# Altium schematic symbol library SchematicLib_Personal.SchLib: 74 symbols
Pins are listed as number, name and electrical type; pins without a type are passive.

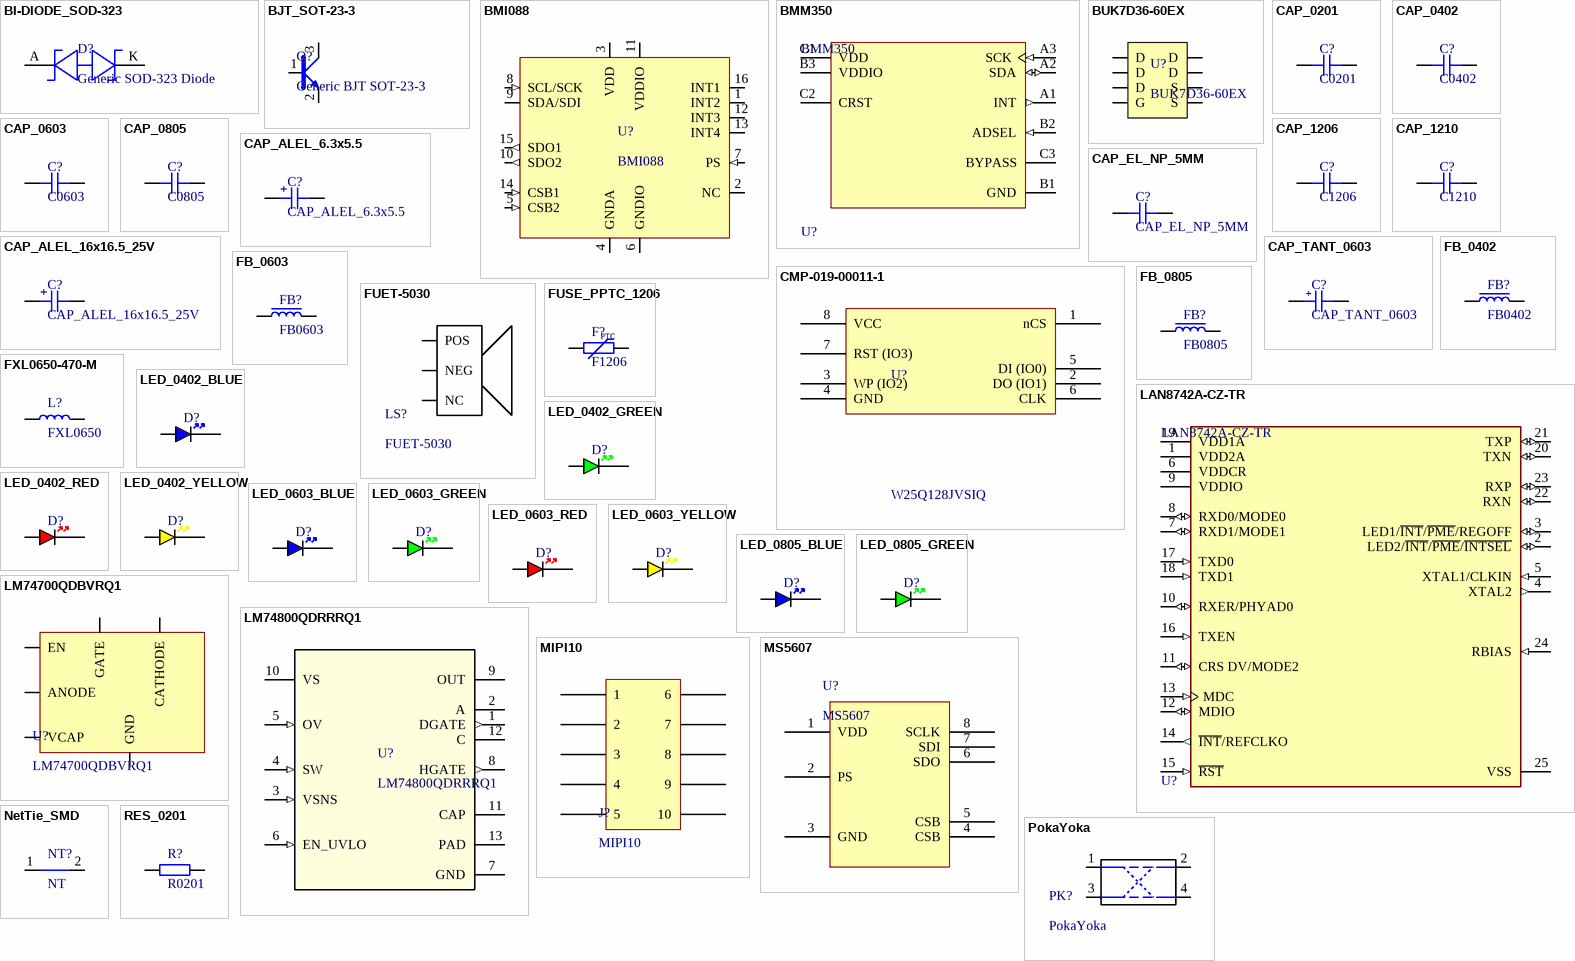
[diagram p0: symbols BI-DIODE_SOD-323 to RES_0201]

## BI-DIODE_SOD-323
designator D?, comment Generic SOD-323 Diode
Generic SOD-323 Zener Diode. BIDIRECTIONAL
footprint SOD-323
pins: A, K

## BJT_SOT-23-3
designator Q?, comment Generic BJT SOT-23-3
Generic BJT SOT-23-3. Check pins.
footprint SOT-23-3
pins: 1 BASE, 2 EMITTER, 3 COLLECTOR

## BMI088
designator U?
Inertial Measurement Unit IMU 6-Axis LGA; Manufacturer: Bosch; Manufacturer Part Number: BMI088; LCSC: C194919
footprint BMI088
pins: 1 INT2 (io), 2 NC, 3 VDD (power), 4 GNDA (power), 5 CSB2 (in), 6 GNDIO (power), 7 PS (in), 8 SCL/SCK (in), 9 SDA/SDI (io), 10 SDO2 (out), 11 VDDIO (power), 12 INT3 (io), 13 INT4 (io), 14 CSB1 (in), 15 SDO1 (out), 16 INT1 (io)

## BMM350
designator U?
BMM350 BMM350 Series 1.98 V I2C/I3C Interface 16 Bit 3 Axis Magnetometer - WLCSP-9; NexarPartId: 135173709; Manufacturer: Bosch; LCSC: C17225907
footprint FP-BMM350-IPC_C
footprint FP-BMM350-IPC_A
footprint FP-BMM350-MFG
footprint FP-BMM350-IPC_B
pins: A1 INT (out), A2 SDA (io), A3 SCK (in), B1 GND (power), B2 ADSEL (in), B3 VDDIO (power), C1 VDD (power), C2 CRST, C3 BYPASS

## BUK7D36-60EX
designator U?
N-Channel 60V 36mΩ@5.5A,10V 4V@250uA; Mfr_Name: Nexperia; RefDes: RefDes; Type: Type
footprint SOT1220
pins: 1 D, 2 D, 3 G, 4 S, 5 D, 6 D, 7 D, 8 S

## CAP_0201
designator C?, comment C0201
Capacitor SMD 0201; Manufacturer: *; Manufacturer Part Number: *; Distributor Link: *; LCSC: *; Rating: *; Dielectric: *
footprint CAP_0201
pins: 1, 2

## CAP_0402
designator C?, comment C0402
Capacitor SMD 0402; Manufacturer: *; Manufacturer Part Number: *; Distributor Link: *; LCSC: *; Rating: *; Dielectric: *
footprint CAP_0402
pins: 1, 2

## CAP_0603
designator C?, comment C0603
Capacitor SMD 0603; Manufacturer: *; Manufacturer Part Number: *; Distributor Link: *; LCSC: *; Rating: *; Dielectric: *
footprint CAP_0603
pins: 1, 2

## CAP_0805
designator C?, comment C0805
Capacitor SMD 0805; Manufacturer: *; Manufacturer Part Number: *; Distributor Link: *; LCSC: *; Rating: *; Dielectric: *
footprint CAP_0805
pins: 1, 2

## CAP_1206
designator C?, comment C1206
Capacitor SMD 1206; Manufacturer: *; Manufacturer Part Number: *; Distributor Link: *; LCSC: *; Rating: *; Dielectric: *
footprint CAP_1206
pins: 1, 2

## CAP_1210
designator C?, comment C1210
Capacitor SMD 1210; Manufacturer: *; Manufacturer Part Number: *; Distributor Link: *; LCSC: *; Rating: *; Dielectric: *
footprint CAP_1210
pins: 1, 2

## CAP_ALEL_6.3x5.5
designator C?
Capacitor SMD Aluminium Electrolytic 6.3mm Diameter 5.5mm Height; Manufacturer: *; Manufacturer Part Number: *; Distributor Link: *; LCSC: *
footprint CAP_AE_SMD_D6MM3_H5M55 (Aluminum Electrolytic Capacitor, Body 6.30x6.60x5.50mm, IPC Low Density)
pins: 1, 2
text: +

## CAP_ALEL_16x16.5_25V
designator C?
Capacitor SMD Aluminium Electrolytic 16x16.5mm 25V; Manufacturer: *; Manufacturer Part Number: *
footprint CAP_ALEL_16x16.5 (Aluminum Electrolytic Capacitor, Body 17.00x17.00x17.00mm, IPC Low Density)
pins: 1, 2
text: +

## CAP_EL_NP_5MM
designator C?
Capacitor SMD Electrolytic Non-Polarised 5mm Diameter; Manufacturer: Nichicon; Manufacturer Part Number: *
footprint CAP-EL-NP-5MM
pins: 1, 2

## CAP_TANT_0603
designator C?
Capacitor SMD Tantalum 0603; Manufacturer: *; Manufacturer Part Number: *; Distributor Link: *; LCSC: *
footprint CAP_TANT_0603
pins: A, K
text: +

## CMP-019-00011-1
designator U?, comment W25Q128JVSIQ
3V 128M-BIT / SERIAL FLASH MEMORY WITH / DUAL/QUAD SPI; Mfr_Name: Winbond; Source: W25Q128JVSIQ.SchLib; Design Item ID: W25Q128JVSIQ; Type: Type; RefDes: RefDes; LCSC: C97521; Component Type: Memory
footprint SOIC_128JVSIQ_WIN
pins: 1 nCS, 2 DO (IO1), 3 WP (IO2), 4 GND (power), 5 DI (IO0), 6 CLK, 7 RST (IO3), 8 VCC (power)

## FB_0402
designator FB?, comment FB0402
Ferrite Bead SMD 0402; Manufacturer: *; Manufacturer Part Number: *; Distributor Link: *; LCSC: *
footprint FB_0402
pins: 1, 2

## FB_0603
designator FB?, comment FB0603
Ferrite Bead SMD 0603; Manufacturer: *; Manufacturer Part Number: *; Distributor Link: *; LCSC: *
footprint FB_0603 (Ferrite Bead 0603)
pins: 1, 2

## FB_0805
designator FB?, comment FB0805
Ferrite Bead SMD 0805; Manufacturer: *; Manufacturer Part Number: *; Distributor Link: *; LCSC: *
footprint FB_0805
pins: 1, 2

## FUET-5030
designator LS?
80dB Passive (external drive) Electromagnetic Type 4kHz SMD,5x5mm Buzzers ROHS
footprint FUET-5030
pins: 1 POS, 2 NEG, 3 NC

## FUSE_PPTC_1206
designator F?, comment F1206
Fuse PPTC SMD 1206; Manufacturer: *; Manufacturer Part Number: *
footprint FUSE_1206
pins: 1, 2
text: PTC

## FXL0650-470-M
designator L?, comment FXL0650
2A 47uH Integrated molded inductor ±20% 2.6A SMD,6.6x7mm; LCSC: *
footprint INDP7066X50N (Inductor, 2-Leads, Body 7.00x6.60mm, IPC Medium Density)
pins: 1, 2

## LAN8742A-CZ-TR
designator U?
IC TRANSCEIVER 1/1 24SQFN; Manufacturer: Microchip; Nominal Supply Current: 6.5-59mA; Max Supply Voltage: 3.6V; Number Of Channels: 1; Data Rate: 100Mbits/s; Interface: Ethernet,Other; Min Supply Voltage: 1.14V; Standoff Height: 0mm; Simplex Duplex: Full-Duplex; Height: 1mm; Ambient Temperature Range High: +70°C; Category: IC; Mouser Description: Small Footprint RMII 10/100 Ethernet Transceiver with flexPWR Technology; Manufacturer Part Number: LAN8742A-CZ-TR; Digikey Description: IC TRANSCEIVER 1/1 24SQFN; Octopart: https://octopart.com/lan8742a-cz-tr-microchip-29030587; Temperature: 0°C to +70°C; Ambient Temperature Range Low: 0°C; Temperature Range Low: 0°C; ComponentLink2Description: Datasheet; Automotive: No; RoHS: TRUE; Device Class L3: Ethernet Interface ICs; Device Class L1: Integrated Circuits (ICs); Device Class L2: Interface ICs; Lead Free: Yes; Ipc Land Pattern Name: QFN50P400X400X90-24; ComponentLink2URL: http://ww1.microchip.com/downloads/en/DeviceDoc/DS_LAN8742_00001989A.pdf; Temperature Range High: +70°C; Package: C04-143B-S4QFN; LCSC: C621425
footprint FP-C04-143B-S4QFN-MFG
footprint FP-C04-143B-S4QFN-IPC_A
footprint FP-C04-143B-S4QFN-IPC_B
footprint FP-C04-143B-S4QFN-IPC_C
pins: 1 VDD2A (power), 2 LED2/~{INT}/~{PME}/~{INTSEL} (io), 3 LED1/~{INT}/~{PME}/REGOFF (io), 4 XTAL2 (out), 5 XTAL1/CLKIN (in), 6 VDDCR (power), 7 RXD1/MODE1 (io), 8 RXD0/MODE0 (io), 9 VDDIO (power), 10 RXER/PHYAD0 (io), 11 CRS DV/MODE2 (io), 12 MDIO (io), 13 MDC (in), 14 ~{INT}/REFCLKO (out), 15 ~{RST} (in), 16 TXEN (in), 17 TXD0 (in), 18 TXD1 (in), 19 VDD1A (power), 20 TXN (io), 21 TXP (io), 22 RXN (io), 23 RXP (io), 24 RBIAS (in), 25 VSS (power)

## LED_0402_BLUE
designator D?, comment BLUE  (value not drawn)
LED 0402 BLUE SMD
footprint LED_0402_BLUE
pins: A, K

## LED_0402_GREEN
designator D?, comment GREEN  (value not drawn)
LED 0402 GREEN SMD
footprint LED_0402_GREEN
pins: A, K

## LED_0402_RED
designator D?, comment RED  (value not drawn)
LED 0402 RED SMD
footprint LED_0402_RED
pins: A, K

## LED_0402_YELLOW
designator D?, comment YELLOW  (value not drawn)
LED 0402 YELLOW SMD
footprint LED_0402_YELLOW
pins: A, K

## LED_0603_BLUE
designator D?, comment BLUE  (value not drawn)
LED 0603 BLUE SMD
footprint LED_0603_BLUE
pins: A, K

## LED_0603_GREEN
designator D?, comment GREEN  (value not drawn)
LED 0603 GREEN SMD
footprint LED_0603_GREEN
pins: A, K

## LED_0603_RED
designator D?, comment RED  (value not drawn)
LED 0603 RED SMD
footprint LED_0603_RED
pins: A, K

## LED_0603_YELLOW
designator D?, comment YELLOW  (value not drawn)
LED 0603 YELLOW SMD
footprint LED_0603_YELLOW
pins: A, K

## LED_0805_BLUE
designator D?, comment BLUE  (value not drawn)
LED 0805 BLUE SMD; Manufacturer: *; Manufacturer Part Number: *; Distributor Link: *; LCSC: *
footprint LED_0805_BLUE
pins: A, K

## LED_0805_GREEN
designator D?, comment GREEN  (value not drawn)
LED 0805 GREEN SMD; Manufacturer: *; Manufacturer Part Number: *; Distributor Link: *; LCSC: *
footprint LED_0805_GREEN
pins: A, K

## LM74700QDBVRQ1
designator U?
Low IQ Reverse Battery Protection Ideal Diode Controller
footprint SOT-23-6
pins: 1 VCAP, 2 GND, 3 EN, 4 CATHODE, 5 GATE, 6 ANODE

## LM74800QDRRRQ1
designator U?
No Description Available; Mfr_Name: Texas Instruments; TYPE: TYPE; RefDes: RefDes
footprint DRR0012E
pins: 1 DGATE (out), 2 A, 3 VSNS (in), 4 SW (in), 5 OV (in), 6 EN_UVLO (in), 7 GND (power), 8 HGATE (out), 9 OUT, 10 VS (power), 11 CAP, 12 C, 13 PAD

## MIPI10
designator J?
Connector for STLink; LCSC: C448647
footprint FP-FTSH-105-01-L-DV-K-TR-MFG
pins: 1, 2, 3, 4, 5, 6, 7, 8, 9, 10

## MS5607
designator U?
Barometric Pressure Sensor; Manufacturer: TE Connectivity; LCSC: C97627
footprint MS5607 (Footprint not found)
pins: 1 VDD, 2 PS, 3 GND, 4 CSB, 5 CSB, 6 SDO, 7 SDI, 8 SCLK

## NetTie_SMD
designator NT?, comment NT  (net tie, no BOM)
Net Tie SMD
footprint NETTIE_SMD
pins: 1, 2

## PokaYoka
designator PK?
UART RX/TX POKA-YOKE
footprint POKAYOKA (Footprint not found)
pins: 1, 2, 3, 4

## RES_0201
designator R?, comment R0201
Resistor SMD 0201; Manufacturer: *; Manufacturer Part Number: *; Distributor Link: *; LCSC: *
footprint RES_0201
pins: 1, 2

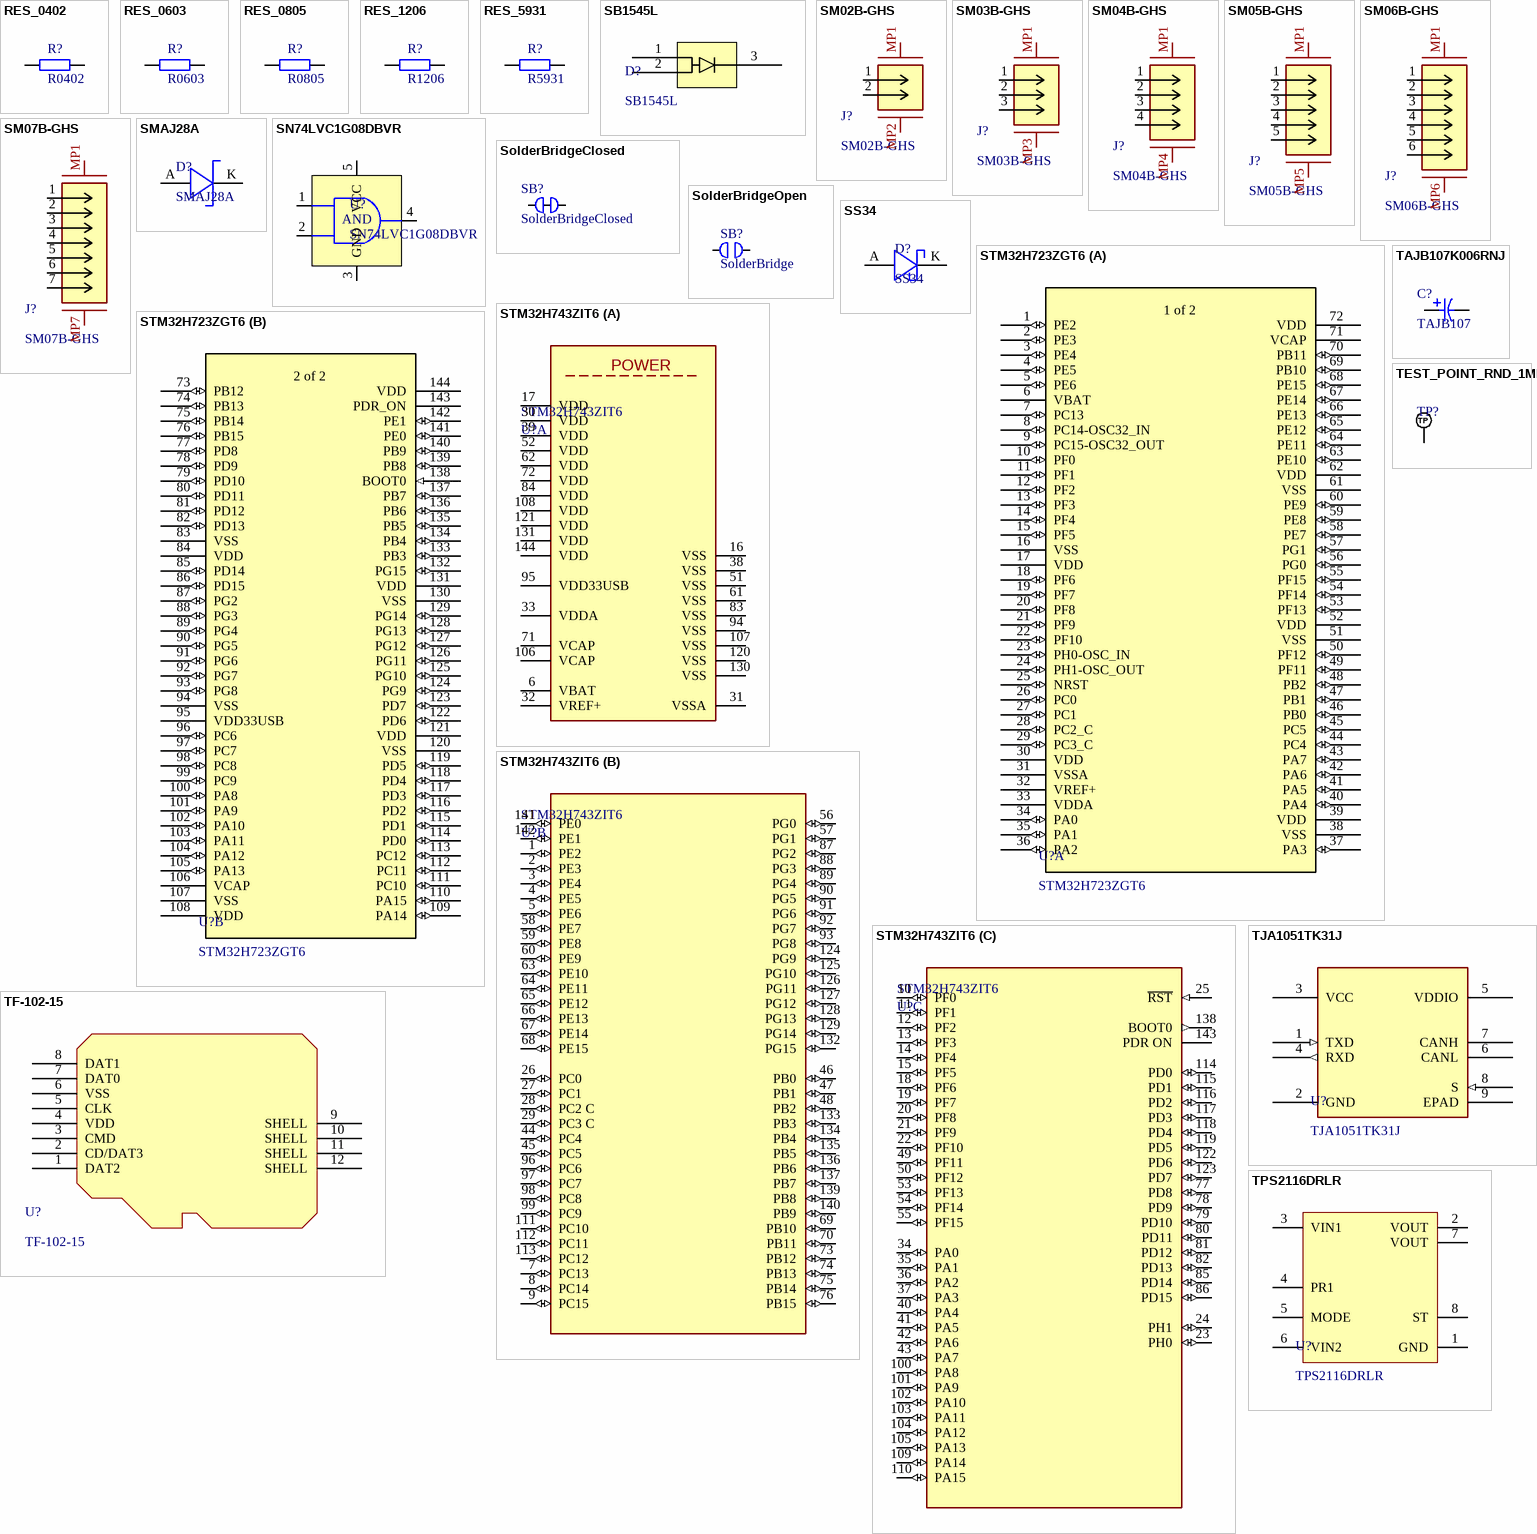
[diagram p1: symbols RES_0402 to TPS2116DRLR]

## RES_0402
designator R?, comment R0402
Resistor SMD 0402; Manufacturer: *; Manufacturer Part Number: *; Distributor Link: *; LCSC: *
footprint RES_0402
pins: 1, 2

## RES_0603
designator R?, comment R0603
Resistor SMD 0603; Manufacturer: *; Manufacturer Part Number: *; Distributor Link: *; LCSC: *
footprint RES_0603
pins: 1, 2

## RES_0805
designator R?, comment R0805
Resistor SMD 0805; Manufacturer: *; Manufacturer Part Number: *; Distributor Link: *; LCSC: *
footprint RES_0805
pins: 1, 2

## RES_1206
designator R?, comment R1206
Resistor SMD 1206; Manufacturer: *; Manufacturer Part Number: *; Distributor Link: *; LCSC: *
footprint RES_1206
pins: 1, 2

## RES_5931
designator R?, comment R5931
Current Sense Resistor SMD 0805; Manufacturer: *; Manufacturer Part Number: *; Distributor Link: *
footprint RES_5931
pins: 1, 2

## SB1545L
designator D?
Schottky Diode 45V 15A 470mV@15A; Mfr_Name: Microdiode Electronics; RefDes: RefDes; Type: Type; LCSC: *
footprint TO-277 (Footprint not found)
pins: 1, 2, 3

## SM02B-GHS
designator J?
JST, 2port, 1.25mm pitch; Mfr_Name: JST; RefDes: RefDes; Type: Type; LCSC: C189893
footprint SM02B-GHS
pins: 1, 2, MP1 1, MP2 1

## SM03B-GHS
designator J?
JST, 3port, 1.25mm pitch; Mfr_Name: JST; RefDes: RefDes; Type: Type; LCSC: C514175
footprint SM03B-GHS
pins: 1, 2, 3, MP1 1, MP3 1

## SM04B-GHS
designator J?
JST, 4port, 1.25mm pitch; Mfr_Name: JST; RefDes: RefDes; Type: Type; LCSC: C189895
footprint SM04B-GHS
pins: 1, 2, 3, 4, MP1 1, MP4 1

## SM05B-GHS
designator J?
JST, 5port, 1.25mm pitch; Mfr_Name: JST; RefDes: RefDes; Type: Type; LCSC: C189896
footprint SM05B-GHS
pins: 1, 2, 3, 4, 5, MP1 1, MP5 1

## SM06B-GHS
designator J?
JST, 6port, 1.25mm pitch; Mfr_Name: JST; RefDes: RefDes; Type: Type; LCSC: C133065
footprint SM06B-GHS
pins: 1, 2, 3, 4, 5, 6, MP1 1, MP6 1

## SM07B-GHS
designator J?
JST, 7port, 1.25mm pitch; Mfr_Name: JST; RefDes: RefDes; Type: Type; LCSC: C495552
footprint SM07B-GHS
pins: 1, 2, 3, 4, 5, 6, 7, MP1 1, MP7 1

## SMAJ28A
designator D?
Zener Diode 8.8A 400W 45.4V 31.1V 28V
footprint DO-214AC-2 (SMA)
pins: A, K

## SN74LVC1G08DBVR
designator U?
AND gate, 10uA 1.65V~5.5V 1 10ns@5V,15pF
footprint SOT-23-5 (Footprint not found)
pins: 1 Y, 2 B, 3 GND, 4 Y, 5 VCC
text: AND

## SolderBridgeClosed
designator SB?
footprint SolderBridgeClosed (Footprint not found)
pins: 1 IN, 2 OUT

## SolderBridgeOpen
designator SB?, comment SolderBridge
Small solder bridge for signals and maybe up to 1 A
footprint SolderBridgeOpen
pins: 1 IN, 2 OUT

## SS34
designator D?
40V Independent Type 3A 550mV@3A; LCSC: *
footprint DO-214AC-2 (SMA)
pins: A, K

## STM32H723ZGT6
designator U?
32-bit Arm® Cortex®-M7 550 MHz MCU, up to 1 MB Flash memory, / 564 KB RAM, 35 comms peripherals and analog interfaces; Mfr_Name: STMicroelectronics; RefDes: RefDes; Type: Type
footprint LQFP144_STM
part A pins: 1 PE2 (io), 2 PE3 (io), 3 PE4 (io), 4 PE5 (io), 5 PE6 (io), 6 VBAT (power), 7 PC13 (io), 8 PC14-OSC32_IN (io), 9 PC15-OSC32_OUT (io), 10 PF0 (io), 11 PF1 (io), 12 PF2 (io), 13 PF3 (io), 14 PF4 (io), 15 PF5 (io), 16 VSS (power), 17 VDD (power), 18 PF6 (io), 19 PF7 (io), 20 PF8 (io), 21 PF9 (io), 22 PF10 (io), 23 PH0-OSC_IN (io), 24 PH1-OSC_OUT (io), 25 NRST (io), 26 PC0 (io), 27 PC1 (io), 28 PC2_C (io), 29 PC3_C (io), 30 VDD (power), 31 VSSA (power), 32 VREF+ (power), 33 VDDA (power), 34 PA0 (io), 35 PA1 (io), 36 PA2 (io), 37 PA3 (io), 38 VSS (power), 39 VDD (power), 40 PA4 (io), 41 PA5 (io), 42 PA6 (io), 43 PA7 (io), 44 PC4 (io), 45 PC5 (io), 46 PB0 (io), 47 PB1 (io), 48 PB2 (io), 49 PF11 (io), 50 PF12 (io), 51 VSS (power), 52 VDD (power), 53 PF13 (io), 54 PF14 (io), 55 PF15 (io), 56 PG0 (io), 57 PG1 (io), 58 PE7 (io), 59 PE8 (io), 60 PE9 (io), 61 VSS (power), 62 VDD (power), 63 PE10 (io), 64 PE11 (io), 65 PE12 (io), 66 PE13 (io), 67 PE14 (io), 68 PE15 (io), 69 PB10 (io), 70 PB11 (io), 71 VCAP (power), 72 VDD (power)
part B pins: 73 PB12 (io), 74 PB13 (io), 75 PB14 (io), 76 PB15 (io), 77 PD8 (io), 78 PD9 (io), 79 PD10 (io), 80 PD11 (io), 81 PD12 (io), 82 PD13 (io), 83 VSS (power), 84 VDD (power), 85 PD14 (io), 86 PD15 (io), 87 PG2 (io), 88 PG3 (io), 89 PG4 (io), 90 PG5 (io), 91 PG6 (io), 92 PG7 (io), 93 PG8 (io), 94 VSS (power), 95 VDD33USB (power), 96 PC6 (io), 97 PC7 (io), 98 PC8 (io), 99 PC9 (io), 100 PA8 (io), 101 PA9 (io), 102 PA10 (io), 103 PA11 (io), 104 PA12 (io), 105 PA13 (io), 106 VCAP (power), 107 VSS (power), 108 VDD (power), 109 PA14 (io), 110 PA15 (io), 111 PC10 (io), 112 PC11 (io), 113 PC12 (io), 114 PD0 (io), 115 PD1 (io), 116 PD2 (io), 117 PD3 (io), 118 PD4 (io), 119 PD5 (io), 120 VSS (power), 121 VDD (power), 122 PD6 (io), 123 PD7 (io), 124 PG9 (io), 125 PG10 (io), 126 PG11 (io), 127 PG12 (io), 128 PG13 (io), 129 PG14 (io), 130 VSS (power), 131 VDD (power), 132 PG15 (io), 133 PB3 (io), 134 PB4 (io), 135 PB5 (io), 136 PB6 (io), 137 PB7 (io), 138 BOOT0 (in), 139 PB8 (io), 140 PB9 (io), 141 PE0 (io), 142 PE1 (io), 143 PDR_ON (power), 144 VDD (power)
part A text: 1 of 2
part B text: 2 of 2

## STM32H743ZIT6
designator U?
IC MCU 32BIT 2MB FLASH 144LQFP; Manufacturer: STMicroelectronics; Number Of I2C Channels: 4; Number Of A/D Converters: 2; Standoff Height: 0.05mm; Interface: I2C,SPI,UART,USART,EBI/EMI,CAN,USB,LIN,IrDA,Other; Max Supply Voltage: 3.6V; Number Of Adc Channels: 36; Ram Size: 1MBytes; Number Of Cores: 1; Frequency: 400MHz; Data Bus Width: 32bits; Core Architecture: ARM Cortex-M7; Memory Size: 2MBytes; Number Of Timers/Counters: 22; Min Supply Voltage: 1.62V; Number Of Spi Channels: 6; Max Junction Temp: +125°C; Number Of I/Os: 114; Digikey Description: IC MCU 32BIT 2MB FLASH 144LQFP; Device Class L2: Embedded Processors and Controllers; Number Of Usb Channels: 2; ComponentLink2Description: Datasheet; Ipc Land Pattern Name: QFP50P2200X2200X160-144; Category: IC; Lead Free: Yes; Temperature Range High: +85°C; Mouser Description: MCU 32-Bit STM32 ARM Cortex M7 RISC 2MB Flash 1.8V/2.5V/3.3V 144-Pin LQFP Tray; RoHS: TRUE; Ambient Temperature Range Low: -40°C; Temperature Range Low: -40°C; ComponentLink2URL: https://www.st.com/resource/en/datasheet/stm32h743zi.pdf; Ambient Temperature Range High: +85°C; Octopart: https://octopart.com/stm32h743zit6-stmicroelectronics-76372529; Number Of Pwm Channels: 2; Height: 1.6mm; Manufacturer Part Number: STM32H743ZIT6; Device Class L3: Microcontrollers; Device Class L1: Integrated Circuits (ICs); Automotive: No; Memory Type: FLASH; Number Of Uart Channels: 4; Package: LQFP144-1A; Temperature: -40°C to +85°C
footprint FP-LQFP144-1A-IPC_B
footprint FP-LQFP144-1A-IPC_A
footprint FP-LQFP144-1A-MFG
footprint FP-LQFP144-1A-IPC_C
part A pins: 6 VBAT (power), 16 VSS (power), 17 VDD (power), 30 VDD (power), 31 VSSA (power), 32 VREF+ (power), 33 VDDA (power), 38 VSS (power), 39 VDD (power), 51 VSS (power), 52 VDD (power), 61 VSS (power), 62 VDD (power), 71 VCAP (power), 72 VDD (power), 83 VSS (power), 84 VDD (power), 94 VSS (power), 95 VDD33USB (power), 106 VCAP (power), 107 VSS (power), 108 VDD (power), 120 VSS (power), 121 VDD (power), 130 VSS (power), 131 VDD (power), 144 VDD (power)
part B pins: 1 PE2 (io), 2 PE3 (io), 3 PE4 (io), 4 PE5 (io), 5 PE6 (io), 7 PC13 (io), 8 PC14 (io), 9 PC15 (io), 26 PC0 (io), 27 PC1 (io), 28 PC2 C (io), 29 PC3 C (io), 44 PC4 (io), 45 PC5 (io), 46 PB0 (io), 47 PB1 (io), 48 PB2 (io), 56 PG0 (io), 57 PG1 (io), 58 PE7 (io), 59 PE8 (io), 60 PE9 (io), 63 PE10 (io), 64 PE11 (io), 65 PE12 (io), 66 PE13 (io), 67 PE14 (io), 68 PE15 (io), 69 PB10 (io), 70 PB11 (io), 73 PB12 (io), 74 PB13 (io), 75 PB14 (io), 76 PB15 (io), 87 PG2 (io), 88 PG3 (io), 89 PG4 (io), 90 PG5 (io), 91 PG6 (io), 92 PG7 (io), 93 PG8 (io), 96 PC6 (io), 97 PC7 (io), 98 PC8 (io), 99 PC9 (io), 111 PC10 (io), 112 PC11 (io), 113 PC12 (io), 124 PG9 (io), 125 PG10 (io), 126 PG11 (io), 127 PG12 (io), 128 PG13 (io), 129 PG14 (io), 132 PG15 (io), 133 PB3 (io), 134 PB4 (io), 135 PB5 (io), 136 PB6 (io), 137 PB7 (io), 139 PB8 (io), 140 PB9 (io), 141 PE0 (io), 142 PE1 (io)
part C pins: 10 PF0 (io), 11 PF1 (io), 12 PF2 (io), 13 PF3 (io), 14 PF4 (io), 15 PF5 (io), 18 PF6 (io), 19 PF7 (io), 20 PF8 (io), 21 PF9 (io), 22 PF10 (io), 23 PH0 (io), 24 PH1 (io), 25 ~{RST} (in), 34 PA0 (io), 35 PA1 (io), 36 PA2 (io), 37 PA3 (io), 40 PA4 (io), 41 PA5 (io), 42 PA6 (io), 43 PA7 (io), 49 PF11 (io), 50 PF12 (io), 53 PF13 (io), 54 PF14 (io), 55 PF15 (io), 77 PD8 (io), 78 PD9 (io), 79 PD10 (io), 80 PD11 (io), 81 PD12 (io), 82 PD13 (io), 85 PD14 (io), 86 PD15 (io), 100 PA8 (io), 101 PA9 (io), 102 PA10 (io), 103 PA11 (io), 104 PA12 (io), 105 PA13 (io), 109 PA14 (io), 110 PA15 (io), 114 PD0 (io), 115 PD1 (io), 116 PD2 (io), 117 PD3 (io), 118 PD4 (io), 119 PD5 (io), 122 PD6 (io), 123 PD7 (io), 138 BOOT0 (out), 143 PDR ON (power)
part A text: POWER

## TAJB107K006RNJ
designator C?, comment TAJB107
Tanatulum Capacitor 100uF 6.3 V; Mfr_Name: KYOCERA AVX
footprint TAJB_AVX
pins: 1, 2

## TEST_POINT_RND_1MM
designator TP?, comment TP_NOBOM  (value not drawn)  (no BOM)
Test Point Round 1mm (NO BOM)
footprint PAD_RND_1MM
pins: 1 TP

## TF-102-15
designator U?
-25℃~+85℃ 1.6mm Gold Card Slot MicroSD card (TF card) 260℃ Phosphor Bronze Flip type SMD SD Card / Memory Card Connector ROHS; Manufacturer: XUNPU; LCSC: C266609
footprint TF-102-15 (-25℃~+85℃ 1.6mm Gold Card Slot MicroSD card (TF card) 260℃ Phosphor Bronze Flip type SMD SD Card / Memory Card Connector)
pins: 1 DAT2, 2 CD/DAT3, 3 CMD, 4 VDD, 5 CLK, 6 VSS, 7 DAT0, 8 DAT1, 9 SHELL, 10 SHELL, 11 SHELL, 12 SHELL

## TJA1051TK31J
designator U?
High-speed CAN transceiver, 5 Mpbs; Mfr_Name: NXP; Type: Interface; RefDes: RefDes; LCSC: C2875699
footprint HVSON8_SOT782-1_NXP
pins: 1 TXD (in), 2 GND (power), 3 VCC (power), 4 RXD (out), 5 VDDIO (power), 6 CANL, 7 CANH, 8 S (in), 9 EPAD (power)

## TPS2116DRLR
designator U?
Power MUX; Mfr_Name: Texas Instruments; TYPE: TYPE; RefDes: RefDes; Supplier 1: Mouser; Supplier Part Number 1: 595-TPS2116DRLR; LCSC: C3235557
footprint DRL0008A-MFG
pins: 1 GND (power), 2 VOUT, 3 VIN1 (power), 4 PR1, 5 MODE, 6 VIN2 (power), 7 VOUT, 8 ST

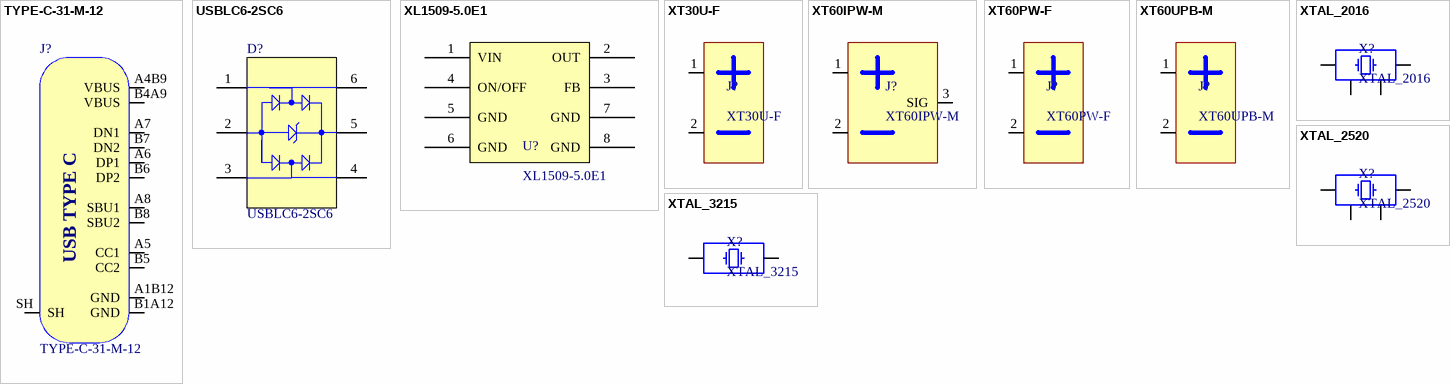
[diagram p2: symbols TYPE-C-31-M-12 to XTAL_3215]

## TYPE-C-31-M-12
designator J?
USB Type C Connector Horizontal SMT; Manufacturer: Koren Hroparts; LCSC: C165948; Manufacturer Part Number: TYPE-C-31-M-12; Design Item ID: TYPE-C-31-M-12; Source: Schematic-Lib-PhilsLab.SchLib; Component Type: Connectors
footprint TYPE-C-31-M-12
pins: A1B12 GND (power), A4B9 VBUS (power), A5 CC1, A6 DP1 (io), A7 DN1 (io), A8 SBU1 (io), B1A12 GND (power), B4A9 VBUS (power), B5 CC2 (hiz), B6 DP2 (io), B7 DN2 (io), B8 SBU2 (io), SH (power)
text: USB TYPE C

## USBLC6-2SC6
designator D?
TVS DIODE 5.25VWM 17VC SOT23-6; Manufacturer: STMicroelectronics; LCSC: C7519; Manufacturer Part Number: USBLC6-2SC6; Component Type: Diodes
footprint STM-SOT23-6L_V (SOT23, 6-Leads, Body 3.05x1.75mm, Pitch 0.95mm)
pins: 1 I/O 1, 2 GND, 3 I/O 2, 4 I/O 3, 5 VBUS, 6 I/O 4

## XL1509-5.0E1
designator U?
Buck Regulator, Step-down type 2A 4.5V~40V SOIC-8; Manufacturer: XLSEMI; LCSC: *
footprint SOIC-8 (SOIC, 8-Leads, Body 4.91x3.90mm, Pitch 1.27mm, IPC Medium Density)
pins: 1 VIN, 2 OUT, 3 FB, 4 ON/OFF, 5 GND, 6 GND, 7 GND, 8 GND

## XT30U-F
designator J?
XT30 female 15A 2-pin AMASS; Manufacturer: AMASS; Manufacturer Part Number: XT30U-F
footprint XT30U-F
pins: 1 V+ (power), 2 V- (power)

## XT60IPW-M
designator J?
XT60 male 30A 3-pin AMASS; Manufacturer: AMASS; Manufacturer Part Number: XT60IPW-M
footprint XT60IPW-M
pins: 1 V+ (power), 2 V- (power), 3 SIG

## XT60PW-F
designator J?
XT60 horizontal female 2-pin AMASS; Manufacturer: AMASS; Manufacturer Part Number: XT60PW-F; Distributor Link: https://www.tme.eu/de/details/xt60pw-f/dc-steckverbinder/amass/
footprint XT60PW-F
pins: 1 V+ (power), 2 V- (power)

## XT60UPB-M
designator J?
XT60 vertical male 2-pin AMASS; Manufacturer: AMASS; Manufacturer Part Number: XT60UPB-M
footprint XT60UPB-M
pins: 1 V+ (power), 2 V- (power)

## XTAL_2016
designator X?
Crystal SMD 4-Pin 2.0x1.6mm; Distributor Link: *
footprint XTAL_2016
pins: 1, 2, 3, 4

## XTAL_2520
designator X?
Crystal SMD 2520; Distributor Link: *
footprint XTAL_2520
pins: 1, 2, 3, 4

## XTAL_3215
designator X?
Crystal SMD 3215; Distributor Link: *
footprint XTAL_3215-2
pins: 1, 2